# Altium schematic symbol library Resistors-2512-E96-Yageo.SchLib: 2 symbols
Pins are listed as number, name and electrical type; pins without a type are passive.

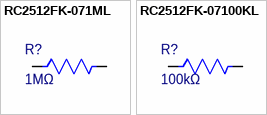
[diagram p0: symbols RC2512FK-071ML to RC2512FK-07100KL]

## RC2512FK-071ML
designator R?, comment 1MΩ
RES 1M OHM 1% 1W 2512; Manufacturer: Yageo Group; Manufacturer Part Number: RC2512FK-071ML; Manufacturer Package Identifier: RC2512; Description: 1W Thick Film Resistors 200V ±100ppm/℃ ±1% 1MΩ 2512 Chip Resistor - Surface Mount ROHS; Temperature Coefficient: 100ppm/°C; Voltage Rating: 500V; Voltage Rating (AC): 200V; Supplier: DigiKey; Supplier Part Number: 13-RC2512FK-071MLCT-ND; RoHS: Compliant; Category: Chip SMD Resistors; Stock: 7313; Pricing: 1=0.3, 10=0.162, 25=0.1312, 50=0.1134, 100=0.0995, 250=0.0854, 500=0.07726, 1000=0.07081 (USD); Case/Package: 2512; Case Code (Imperial): 2512; Case Code (Metric): 6432; China RoHS: Non-Compliant; Composition: Thick Film; Contact Plating: Tin; Country of Origin: Mainland China, Taiwan; Depth: 3.1mm; Export Control Classification Number (ECCN) Code: EAR99; Features: Moisture Resistant; Height: 550µm; Harmonized Tariff Schedule (HTS) Code: 8533.21.00.30; Introduction Date: 2004-10-06; Length: 6.35mm; Lifecycle Status: Production; Max Operating Temperature: 155°C; Max Power Dissipation: 1W; Military Standard: Not; Min Operating Temperature: -55°C; Mounting Technology: Surface Mount; Pins: 2; Number of Terminals: 2; Number of Terminations: 2; Packaging: Cut Tape; Power Dissipation: 1W; Power Rating: 1W; REACH SVHC: Yes; Value: 1MΩ; Schedule B: 8533210045, 8533210045|8533210045, 8533210045|8533210045|8533210045, 8533210045|8533210045|8533210045|8533210045; Termination: SMD/SMT; Tolerance: 1%; Voltage Rating (DC): 200V; Width: 3.1mm; Working Voltage: 200V; ComponentLink1URL: https://datasheet.octopart.com:443/RC2512FK-071ML-Yageo-datasheet-175887523.pdf?src-supplier=Newark; ComponentLink1Description: https://datasheet.octopart.com:443/RC2512FK-071ML-Yageo-datasheet-175887523.pdf?src-supplier=Newark; ComponentLink2URL: https://datasheet.octopart.com:443/RC2512FK-071ML-Yageo-datasheet-8325949.pdf?src-supplier=Newark; ComponentLink2Description: https://datasheet.octopart.com:443/RC2512FK-071ML-Yageo-datasheet-8325949.pdf?src-supplier=Newark; ComponentLink3URL: https://datasheet.octopart.com:443/RC2512FK-071ML-Yageo-datasheet-103092701.pdf?src-supplier=Upverter; ComponentLink3Description: https://datasheet.octopart.com:443/RC2512FK-071ML-Yageo-datasheet-103092701.pdf?src-supplier=Upverter; ComponentLink4URL: https://datasheet.octopart.com:443/RC2512FK-071ML-Yageo-datasheet-62067350.pdf?src-supplier=element14+APAC; ComponentLink4Description: https://datasheet.octopart.com:443/RC2512FK-071ML-Yageo-datasheet-62067350.pdf?src-supplier=element14+APAC; ComponentLink5URL: https://datasheet.octopart.com:443/RC2512FK-071ML-Yageo-Group-datasheet-176638170.pdf?src-supplier=Future+Electronics; ComponentLink5Description: https://datasheet.octopart.com:443/RC2512FK-071ML-Yageo-Group-datasheet-176638170.pdf?src-supplier=Future+Electronics; ComponentLink6URL: https://datasheet.octopart.com:443/RC2512FK-071ML-Yageo-datasheet-164759695.pdf?src-supplier=Future+Electronics; ComponentLink6Description: https://datasheet.octopart.com:443/RC2512FK-071ML-Yageo-datasheet-164759695.pdf?src-supplier=Future+Electronics; ComponentLink7URL: https://datasheet.octopart.com:443/RC2512FK-071ML-Yageo-datasheet-127823281.pdf?src-supplier=Future+Electronics; ComponentLink7Description: https://datasheet.octopart.com:443/RC2512FK-071ML-Yageo-datasheet-127823281.pdf?src-supplier=Future+Electronics; ComponentLink8URL: https://datasheet.octopart.com:443/RC2512FK-071ML-Yageo-datasheet-137700087.pdf?src-supplier=Future+Electronics; ComponentLink8Description: https://datasheet.octopart.com:443/RC2512FK-071ML-Yageo-datasheet-137700087.pdf?src-supplier=Future+Electronics; ComponentLink9URL: https://datasheet.octopart.com:443/RC2512FK-071ML-Yageo-datasheet-98239111.pdf?src-supplier=Future+Electronics; ComponentLink9Description: https://datasheet.octopart.com:443/RC2512FK-071ML-Yageo-datasheet-98239111.pdf?src-supplier=Future+Electronics; ComponentLink10URL: https://datasheet.octopart.com/RC2512FK-071ML-Yageo-datasheet-73766026.pdf; ComponentLink10Description: https://datasheet.octopart.com/RC2512FK-071ML-Yageo-datasheet-73766026.pdf; ComponentLink11URL: https://datasheet.octopart.com:443/RC2512FK-071ML-Yageo-datasheet-10027440.pdf?src-supplier=Farnell; ComponentLink11Description: https://datasheet.octopart.com:443/RC2512FK-071ML-Yageo-datasheet-10027440.pdf?src-supplier=Farnell; ComponentLink12URL: http://sigma.octopart.com:80/conflict_mineral_statement/Yageo-company-3.pdf?src-supplier=Compliance+Statements; ComponentLink12Description: http://sigma.octopart.com:80/conflict_mineral_statement/Yageo-company-3.pdf?src-supplier=Compliance+Statements; ComponentLink13URL: http://sigma.octopart.com:80/rohs_statement/Yageo-company-2.pdf?src-supplier=Compliance+Statements; ComponentLink13Description: http://sigma.octopart.com:80/rohs_statement/Yageo-company-2.pdf?src-supplier=Compliance+Statements
footprint 2512-REFLOW
footprint 2512-WAVE
pins: 1, 2

## RC2512FK-07100KL
designator R?, comment 100kΩ
RES 100K OHM 1% 1W 2512; Manufacturer: Yageo Group; Manufacturer Part Number: RC2512FK-07100KL; Manufacturer Package Identifier: RC2512; Temperature Coefficient: 100ppm/°C; Voltage Rating: 500V; Voltage Rating (AC): 200V; Supplier: DigiKey; Supplier Part Number: 13-RC2512FK-07100KLCT-ND; RoHS: Compliant; Category: Chip SMD Resistors; Stock: 3639; Pricing: 1=0.3, 10=0.162, 25=0.1312, 50=0.1134, 100=0.0995, 250=0.0854, 500=0.07726, 1000=0.07081 (USD); Case/Package: 2512; Case Code (Imperial): 2512; Case Code (Metric): 6432; China RoHS: Non-Compliant; Composition: Thick Film; Contact Plating: Lead, Tin; Depth: 3.1mm; Features: Moisture Resistant; Height: 550µm; Lead Free: Lead Free; Length: 6.35mm; Lifecycle Status: Production; Max Operating Temperature: 155°C; Max Power Dissipation: 1W; Military Standard: Not; Min Operating Temperature: -55°C; Mounting Technology: Surface Mount; Pins: 2; Number of Terminals: 2; Number of Terminations: 2; Packaging: Cut Tape; Power Dissipation: 1W; Power Rating: 1W; Radiation Hardening: No; REACH SVHC: Yes; Value: 100kΩ; Schedule B: 8533210045, 8533210045|8533210045|8533210045|8533210045|8533210045|8533210045|8533210045|8533210045|8533210045|8533210045|8533210045|8533210045|8533210045|8533210045|8533210045|8533210045|8533210045|8533210045|8533210045|8533210045|8533210045|8533210045|8533210045|85; Termination: SMD/SMT; Tolerance: 1%; Voltage Rating (DC): 200V; Width: 3.1mm; Working Voltage: 200V; ComponentLink1URL: https://datasheet.octopart.com:443/RC2512FK-07100KL-Yageo-datasheet-175887523.pdf?src-supplier=IHS; ComponentLink1Description: https://datasheet.octopart.com:443/RC2512FK-07100KL-Yageo-datasheet-175887523.pdf?src-supplier=IHS; ComponentLink2URL: https://datasheet.octopart.com:443/RC2512FK-07100KL-Yageo-datasheet-103092701.pdf?src-supplier=Upverter; ComponentLink2Description: https://datasheet.octopart.com:443/RC2512FK-07100KL-Yageo-datasheet-103092701.pdf?src-supplier=Upverter; ComponentLink3URL: https://datasheet.octopart.com:443/RC2512FK-07100KL-Yageo-datasheet-62067350.pdf?src-supplier=element14+APAC; ComponentLink3Description: https://datasheet.octopart.com:443/RC2512FK-07100KL-Yageo-datasheet-62067350.pdf?src-supplier=element14+APAC; ComponentLink4URL: https://datasheet.octopart.com:443/RC2512FK-07100KL-Yageo-datasheet-10027440.pdf?src-supplier=Future+Electronics; ComponentLink4Description: https://datasheet.octopart.com:443/RC2512FK-07100KL-Yageo-datasheet-10027440.pdf?src-supplier=Future+Electronics; ComponentLink5URL: https://datasheet.octopart.com:443/RC2512FK-07100KL-Yageo-Group-datasheet-176638170.pdf?src-supplier=Future+Electronics; ComponentLink5Description: https://datasheet.octopart.com:443/RC2512FK-07100KL-Yageo-Group-datasheet-176638170.pdf?src-supplier=Future+Electronics; ComponentLink6URL: https://datasheet.octopart.com:443/RC2512FK-07100KL-Yageo-datasheet-164759695.pdf?src-supplier=Future+Electronics; ComponentLink6Description: https://datasheet.octopart.com:443/RC2512FK-07100KL-Yageo-datasheet-164759695.pdf?src-supplier=Future+Electronics; ComponentLink7URL: https://datasheet.octopart.com:443/RC2512FK-07100KL-Yageo-datasheet-127823281.pdf?src-supplier=Future+Electronics; ComponentLink7Description: https://datasheet.octopart.com:443/RC2512FK-07100KL-Yageo-datasheet-127823281.pdf?src-supplier=Future+Electronics; ComponentLink8URL: https://datasheet.octopart.com:443/RC2512FK-07100KL-Yageo-datasheet-137700087.pdf?src-supplier=Future+Electronics; ComponentLink8Description: https://datasheet.octopart.com:443/RC2512FK-07100KL-Yageo-datasheet-137700087.pdf?src-supplier=Future+Electronics; ComponentLink9URL: https://datasheet.octopart.com:443/RC2512FK-07100KL-Yageo-datasheet-98239111.pdf?src-supplier=Future+Electronics; ComponentLink9Description: https://datasheet.octopart.com:443/RC2512FK-07100KL-Yageo-datasheet-98239111.pdf?src-supplier=Future+Electronics; ComponentLink10URL: https://datasheet.octopart.com:443/RC2512FK-07100KL-Yageo-datasheet-62043912.pdf?src-supplier=Future+Electronics; ComponentLink10Description: https://datasheet.octopart.com:443/RC2512FK-07100KL-Yageo-datasheet-62043912.pdf?src-supplier=Future+Electronics; ComponentLink11URL: https://datasheet.octopart.com:443/RC2512FK-07100KL-Yageo-datasheet-61560943.pdf?src-supplier=Future+Electronics; ComponentLink11Description: https://datasheet.octopart.com:443/RC2512FK-07100KL-Yageo-datasheet-61560943.pdf?src-supplier=Future+Electronics; ComponentLink12URL: https://datasheet.octopart.com:443/RC2512FK-07100KL-Yageo-datasheet-45841575.pdf?src-supplier=Future+Electronics; ComponentLink12Description: https://datasheet.octopart.com:443/RC2512FK-07100KL-Yageo-datasheet-45841575.pdf?src-supplier=Future+Electronics; ComponentLink13URL: https://datasheet.octopart.com:443/RC2512FK-07100KL-Yageo-datasheet-12513814.pdf?src-supplier=Future+Electronics; ComponentLink13Description: https://datasheet.octopart.com:443/RC2512FK-07100KL-Yageo-datasheet-12513814.pdf?src-supplier=Future+Electronics; ComponentLink14URL: https://datasheet.octopart.com:443/RC2512FK-07100KL-Yageo-datasheet-8325949.pdf?src-supplier=Newark; ComponentLink14Description: https://datasheet.octopart.com:443/RC2512FK-07100KL-Yageo-datasheet-8325949.pdf?src-supplier=Newark; ComponentLink15URL: https://datasheet.octopart.com/RC2512FK-07100KL-Yageo-datasheet-73766026.pdf; ComponentLink15Description: https://datasheet.octopart.com/RC2512FK-07100KL-Yageo-datasheet-73766026.pdf; ComponentLink16URL: http://sigma.octopart.com:80/conflict_mineral_statement/Yageo-company-3.pdf?src-supplier=Compliance+Statements; ComponentLink16Description: http://sigma.octopart.com:80/conflict_mineral_statement/Yageo-company-3.pdf?src-supplier=Compliance+Statements; ComponentLink17URL: http://sigma.octopart.com:80/rohs_statement/Yageo-company-2.pdf?src-supplier=Compliance+Statements; ComponentLink17Description: http://sigma.octopart.com:80/rohs_statement/Yageo-company-2.pdf?src-supplier=Compliance+Statements
footprint 2512-REFLOW
footprint 2512-WAVE
pins: 1, 2